# Altium schematic symbol library ThroHole.SchLib: 2 symbols
Pins are listed as number, name and electrical type; pins without a type are passive.

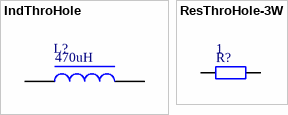
[diagram p0: symbols IndThroHole to ResThroHole-3W]

## IndThroHole
designator L?  value 470uH  (hidden comment: IndThroHole)
Magnetic-Core Inductor
footprint AXIAL-0.5 (1/2W/1W)
pins: 1, 2

## ResThroHole-3W
designator R?  value 1
3W Through Hole Resistor
footprint R3W-H
pins: 1, 2